# EAGLE library part TPS84250RKGR (library TPS84250RKGR)
7V to 50V, 2.5A Step-Down Integrated Power Solution 41-B1QFN -40 to 85
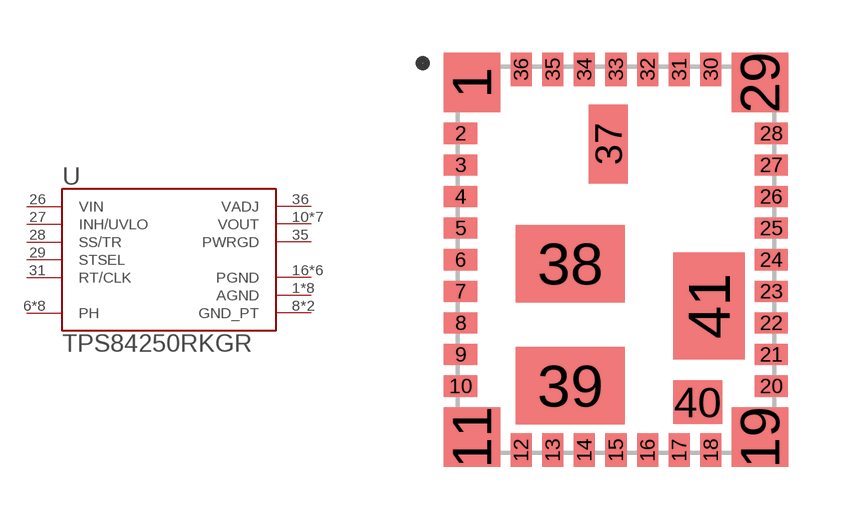
[diagram p0: symbol with the pads of QFN90P1100X900X290-41N; footprint QFN90P1100X900X290-41N]

Designator prefix U

## TPS84250RKGR (Description: 7V to 50V, 2.5A Step-Down Integrated Power Solution 41-B1QFN -40 to 85; Digi-Key_Part_Number: 296-34944-1-ND; MF: Texas Instruments; MP: TPS84250RKGR; Package: B1QFN-41 Texas Instruments; Purchase-URL: https://pricing.snapeda.com/search/part/TPS84250RKGR/?ref=eda)  [QFN90P1100X900X290-41N]
1  AGND  pwr
4  AGND  pwr
5  AGND  pwr
6  PH  pas
7  PH  pas
8  GND_PT  pwr
9  GND_PT  pwr
10  VOUT  out
11  VOUT  out
12  VOUT  out
13  VOUT  out
14  VOUT  out
15  VOUT  out
16  PGND  pwr
17  PGND  pwr
18  PGND  pwr
19  PGND  pwr
20  PGND  pwr
21  PH  pas
22  PH  pas
23  PH  pas
24  PH  pas
26  VIN  in
27  INH/UVLO  in
28  SS/TR  in
29  STSEL  in
30  AGND  pwr
31  RT/CLK  in
32  AGND  pwr
33  AGND  pwr
34  AGND  pwr
35  PWRGD  out
36  VADJ  out
37  AGND  pwr
38  PH  pas
39  VOUT  out
40  PGND  pwr
41  PH  pas

## Footprint QFN90P1100X900X290-41N (pad centres in mm)
smd 1.6 x 1.7: 1 -4.1,5.05; 11 -4.1,-5.05; 19 4.1,-5.05; 29 4.1,5.05
smd 0.95 x 0.6: 2 -4.42,3.6; 3 -4.42,2.7; 4 -4.42,1.8; 5 -4.42,0.9; 6 -4.42,0; 7 -4.42,-0.9; 8 -4.42,-1.8; 9 -4.42,-2.7; 10 -4.42,-3.6; 20 4.42,-3.6; 21 4.42,-2.7; 22 4.42,-1.8; 23 4.42,-0.9; 24 4.42,0; 25 4.42,0.9; 26 4.42,1.8; 27 4.42,2.7; 28 4.42,3.6
smd 0.6 x 0.95: 12 -2.7,-5.425; 13 -1.8,-5.425; 14 -0.9,-5.425; 15 0,-5.425; 16 0.9,-5.425; 17 1.8,-5.425; 18 2.7,-5.425; 30 2.7,5.425; 31 1.8,5.425; 32 0.9,5.425; 33 0,5.425; 34 -0.9,5.425; 35 -1.8,5.425; 36 -2.7,5.425
smd 1.1 x 2.25: 37 -0.22,3.3
smd 3.1 x 2.2: 38 -1.3,-0.11; 39 -1.3,-3.59
smd 1.4 x 1.24: 40 2.33,-4.06
smd 2.04 x 3.05: 41 2.65,-1.32